# EAGLE library part AMP-10029449 (library con-HDMI)
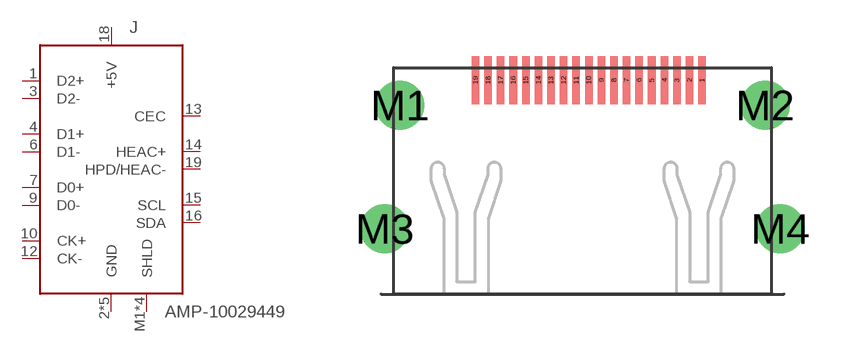
[diagram p0: symbol with the pads of AMPHENOL-10029449; footprint AMPHENOL-10029449]

Designator prefix J

## AMP-10029449-001 (MF: Amphenol; MPN: 10029449-001), AMP-10029449-002 (MF: Amphenol; MPN: 10029449-002), AMP-10029449-101 (MF: Amphenol; MPN: 10029449-101)  [AMPHENOL-10029449]
1  D2+
2  GND  pwr
3  D2-
4  D1+
5  GND  pwr
6  D1-
7  D0+
8  GND  pwr
9  D0-
10  CK+
11  GND  pwr
12  CK-
13  CEC
14  HEAC+
15  SCL
16  SDA
17  GND  pwr
18  +5V  pwr
19  HPD/HEAC-
M1  SHLD  pas
M2  SHLD  pas
M3  SHLD  pas
M4  SHLD  pas

## Footprint AMPHENOL-10029449 (pad centres in mm)
smd 0.3 x 1.9: 1 4.75,1; 2 4.25,1; 3 3.75,1; 4 3.25,1; 5 2.75,1; 6 2.25,1; 7 1.75,1; 8 1.25,1; 9 0.75,1; 10 0.25,1; 11 -0.25,1; 12 -0.75,1; 13 -1.25,1; 14 -1.75,1; 15 -2.25,1; 16 -2.75,1; 17 -3.25,1; 18 -3.75,1; 19 -4.25,1
drill 1.3: M1 -7.25,0; M2 7.25,0; M3 -7.85,-4.9; M4 7.85,-4.9